# EAGLE library part LIS35DE (library X893)
MEMS motion sensor 3-axis - ±2g/±8g smart digital output "piccolo" accelerometer http://www.st.com/stonline/products/literature/ds/15594/lis35de.pdf
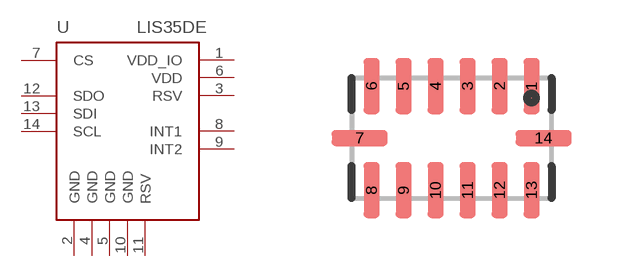
[diagram p31: symbol with the pads of LGA14; footprint LGA14]

Designator prefix U

## LIS35DE  [LGA14]
1  VDD_IO  pas
2  GND  sup
3  RSV  pas
4  GND  sup
5  GND  sup
6  VDD  pas
7  CS  in
8  INT1  out
9  INT2  out
10  GND  sup
11  RSV  pas
12  SDO
13  SDI
14  SCL  in

## Footprint LGA14 (pad centres in mm)
smd 0.4 x 1.4: 1 2,1.3; 2 1.2,1.3; 3 0.4,1.3; 4 -0.4,1.3; 5 -1.2,1.3; 6 -2,1.3; 8 -2,-1.3; 9 -1.2,-1.3; 10 -0.4,-1.3; 11 0.4,-1.3; 12 1.2,-1.3; 13 2,-1.3
smd 1.4 x 0.4: 7 -2.3,0; 14 2.3,0